# Altium schematic symbol library Electromechanical.SchLib: 51 symbols (part 1 of 2)
Pins are listed as number, name and electrical type; pins without a type are passive.

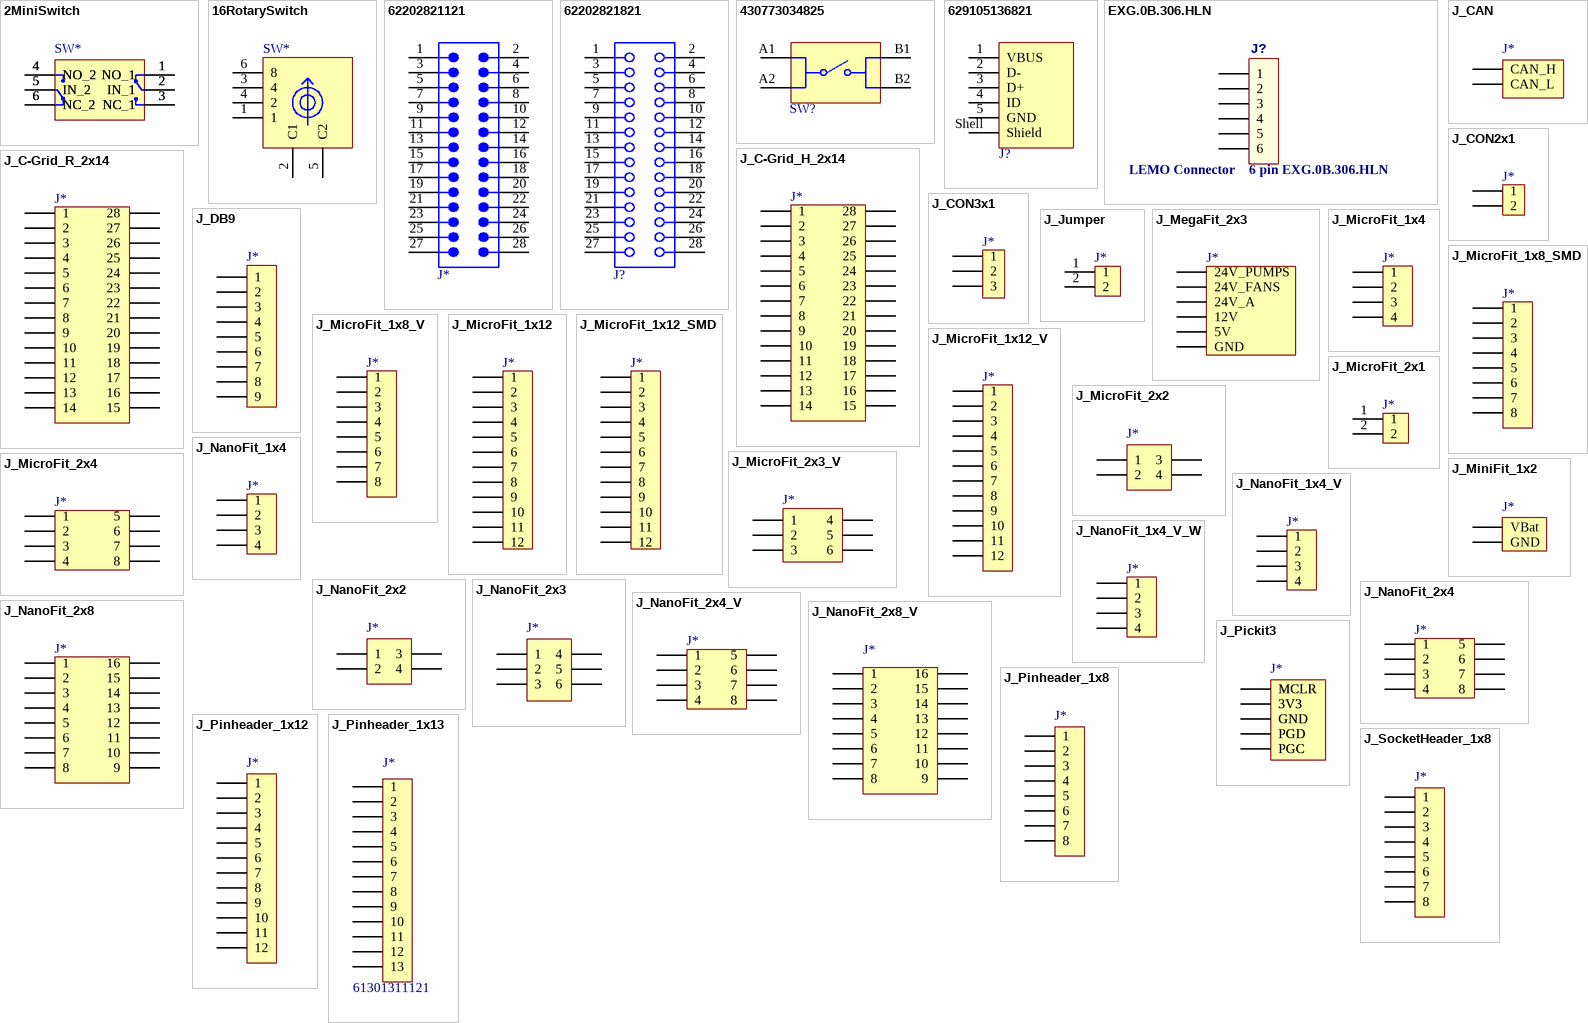
[diagram p0: symbols 2MiniSwitch to J_SocketHeader_1x8]

## 2MiniSwitch
designator SW*, comment 452403012014  (value not drawn)
Switch Slide DPDT 300MA 6V; Manufacturer: Wurth Electronics; Actuator Material: Polymer,Liquid Crystal Polymer; Contact Style: Non-Shorting; Operating Force: 200gf; Switch Travel: 2mm; Switch Function: On-On; Actuator Type: Standard; Actuator Length: 1.2mm; .Creator: GP; Supplier 1: Mouser; Manufacturer Part Number: 452403012014; RoHS: Yes; Stock 1: 5235; Pricing 1: 1=2,51000, 10=2,51000, 50=2,51000, 100=2,10000, 1000=1,69000, 10000=1,50000 (USD); Mount: Surface Mount; Contact Material: Copper Alloy; Contact Plating: Silver; Color: Silver; Min Operating Temperature: -40°C; Max Operating Temperature: 85°C; Packaging: Tape and Reel; Current Rating: 300mA; Voltage Rating (DC): 6V; Termination: SMD/SMT; Throw Configuration: DPDT; RoHS Compliant: Yes; ComponentLink1URL: https://katalog.we-online.de/em/datasheet/452403012014.pdf?src-supplier=Digi-Key; ComponentLink1Description: https://katalog.we-online.de/em/datasheet/452403012014.pdf?src-supplier=Digi-Key; Supplier Part Number 1: 710-452403012014; Category: Switch
footprint 2MINISW
pins: 1 NO_1, 1 NO_1, 1 NO_1, 1 NO_1, 2 IN_1, 2 IN_1, 2 IN_1, 2 IN_1, 3 NC_1, 3 NC_1, 3 NC_1, 3 NC_1, 4 NO_2, 4 NO_2, 4 NO_2, 4 NO_2, 5 IN_2, 5 IN_2, 5 IN_2, 5 IN_2, 6 NC_2, 6 NC_2, 6 NC_2, 6 NC_2

## 16RotarySwitch
designator SW*, comment 428542320816  (value not drawn)
Switch Rotary DIP Hex 100MA 42V; Manufacturer 1: Wurth Electronics; Body Material: Polymer,Liquid Crystal Polymer; Number of Positions: 16; Pitch: 0.1inch; Washable: No; .Creator: DR; Supplier 1: Mouser; Manufacturer Part Number 1: 428542320816; RoHS: Yes; Category: DIP Switches; Stock 1: 5136; Pricing 1: 1=4,78000, 10=4,66000, 50=4,56000, 100=4,24000, 1000=3,92000, 10000=3,79000 (USD); Contact Plating: Gold; Min Operating Temperature: -60°C; Max Operating Temperature: 125°C; Current Rating: 100mA; Voltage Rating (DC): 42V; Termination: Gull Wing; Length: 0.291inch; RoHS Compliant: Yes; ComponentLink1URL: http://katalog.we-online.de/em/datasheet/428542320816.pdf?src-supplier=Digi-Key; ComponentLink1Description: http://katalog.we-online.de/em/datasheet/428542320816.pdf?src-supplier=Digi-Key; ComponentLink2URL: https://katalog.we-online.de/em/datasheet/428542320816.pdf?src-supplier=Digi-Key; ComponentLink2Description: https://katalog.we-online.de/em/datasheet/428542320816.pdf?src-supplier=Digi-Key; Supplier Part Number 1: 710-428542320816
footprint 16RotarySw
pins: 1, 2 C1, 3 4, 4 2, 5 C2, 6 8

## 62202821121
designator J*  (value not drawn)
WR-PHD Pin Header, THT, Vertical, pitch 1.27mm, 2 Row, 28P; Manufacturer: Wurth Elektronik; Contact Resistance: 20mΩ; Rated Current: 1A; Working Voltage: 100V; Withstanding Voltage: 500V; ComponentLink1Description: Website Link; ComponentLink1URL: https://www.we-online.com/redexpert/article/62202821121?ad; ComponentLink2Description: Datasheet Link; ComponentLink2URL: https://www.we-online.com/redexpert/spec/62202821121?ad; Manufacturer Part Number: 62202821121; Category: Board-to-Board Connectors; Match Code: WR-PHD; Mount: Through Hole; Operating Temperature Max: 105°C; Operating Temperature Min: -40°C; Packaging: Box; Gender: Pin Header; Number of Pins: 28; Number of Rows: 2; Orientation: Vertical; Pitch: 1.27mm; Supplier 1: Digi-Key; Supplier Part Number 1: 732-5378-ND
footprint 62202821121
pins: 1, 2, 3, 4, 5, 6, 7, 8, 9, 10, 11, 12, 13, 14, 15, 16, 17, 18, 19, 20, 21, 22, 23, 24, 25, 26, 27, 28

## 62202821821
designator J?  (value not drawn)
WR-PHD Socket Header, THT, Vertical, pitch 1.27mm, 2 Row, 28P; Manufacturer: Wurth Elektronik; Contact Resistance: 20mΩ; Rated Current: 1A; Working Voltage: 250V; Withstanding Voltage: 500V; ComponentLink1Description: Website Link; ComponentLink1URL: https://www.we-online.com/redexpert/article/62202821821?ad; ComponentLink2Description: Datasheet Link; ComponentLink2URL: https://www.we-online.com/redexpert/spec/62202821821?ad; Manufacturer Part Number: 62202821821; Category: Board-to-Board Connectors; Match Code: WR-PHD; Mount: Through Hole; Operating Temperature Max: 105°C; Operating Temperature Min: -40°C; Packaging: Tube; Gender: Socket Header; Number of Pins: 28; Number of Rows: 2; Orientation: Vertical; Pitch: 1.27mm
footprint 62202821821
pins: 1, 2, 3, 4, 5, 6, 7, 8, 9, 10, 11, 12, 13, 14, 15, 16, 17, 18, 19, 20, 21, 22, 23, 24, 25, 26, 27, 28

## 430773034825
designator SW?  (value not drawn)
WS-TASV J-Hook SMT Hermetic Tact Switch, L6 x W6 x H3.4mm, 250g, SPST-NO, 12V, 50mA; Manufacturer: Wurth Elektronik; Washable: Yes; Manufacturer Part Number: 430773034825; Category: Tact Switches; Match Code: WS-TASV; ComponentLink1Description: Website Link; ComponentLink1URL: https://www.we-online.com/redexpert/article/430773034825?ad; ComponentLink2Description: Datasheet Link; ComponentLink2URL: https://www.we-online.com/redexpert/spec/430773034825?ad; Mount: Surface Mount; Operating Temperature Max: 85°C; Operating Temperature Min: -40°C; Packaging: Tape and Reel; Length: 6mm; Width: 6mm; Height: 3.4mm; Circuit: SPST-NO; Contact Material: Stainless Steel; Contact Plating: Silver; Operation Force: 250g; Rated Current: 50mA; Rated Voltage (DC): 12V; Terminal Material: Copper Alloy; Terminal Plating: Silver; Supplier 1: Digi-Key; Supplier Part Number 1: 732-11577-1-ND
footprint WS-TASV_L6W6H3.4_4307x30348xx
pins: A1, A2, B1, B2

## 629105136821
designator J?  (value not drawn)
WR-COM Micro USB 2.0 SMT Type B Horizontal 5 Contacts; Manufacturer: Wurth Elektronik; Match Code: WR-USB; Gender: Receptacle; Interface Type: Type B; Number of Ports: 1; Rated Current: 1A; Working Voltage: 30V (AC); Manufacturer Part Number: 629105136821; Category: Input/Output Connectors; ComponentLink1Description: Website Link; ComponentLink1URL: https://www.we-online.com/redexpert/article/629105136821?ad; ComponentLink2Description: Datasheet Link; ComponentLink2URL: https://www.we-online.com/redexpert/spec/629105136821?ad; Mount: Surface Mount; Operating Temperature Max: 105°C; Operating Temperature Min: -40°C; Packaging: Tape and Reel; Application: Micro USB 2.0; Number of Pins: 5; Orientation: Horizontal; Supplier 1: Rs; Supplier Part Number 1: 8183361
footprint 629105136821
pins: 1 VBUS, 2 D-, 3 D+, 4 ID, 5 GND, Shell Shield

## EXG.0B.306.HLN
designator J?, comment LEMO Connector    6 pin EXG.0B.306.HLN
MPN: EXG.0B.306.HLN; OC_FARNELL: unknown; OC_NEWARK: unknown; Supplier 1: Digi-Key; Supplier Part Number 1: EXG.0B.306.HLN-ND
footprint EXG.0B.306.HLN
pins: 1, 2, 3, 4, 5, 6

## J_C-Grid_H_2x14
designator J*, comment 15800283  (value not drawn)
Conn Shrouded Header HDR 28 POS 2.54mm Solder ST Thru-Hole C-Grid® Tube; Manufacturer: Molex; Manufacturer Part Number: 105314-1116; .Creator: DO; Supplier 1: Newark; RoHS: Yes; Category: Headers and Wire Housings; Stock 1: 366; Pricing 1: 1=3,37000, 10=3,24000, 25=2,88000, 50=2,81000, 100=2,73000, 250=2,44000 (USD); Supplier Part Number 1: 33AC7692; Supplier 2: Newark; Pricing 2: 1728=9,31000 (USD); ComponentLink3URL: https://datasheet.ciiva.com/6787/015445104-sd-6787520.pdf?src-supplier=Digi-Key; ComponentLink3Description: https://datasheet.ciiva.com/6787/015445104-sd-6787520.pdf?src-supplier=Digi-Key; ComponentLink4URL: https://datasheet.ciiva.com/10073/0015445128-pcb-receptacles-10073602.pdf?src-supplier=Avnet; ComponentLink4Description: https://datasheet.ciiva.com/10073/0015445128-pcb-receptacles-10073602.pdf?src-supplier=Avnet; ComponentLink5URL: https://datasheet.ciiva.com/13564/0015445128-pcb-receptacles-226837-13564650.pdf?src-supplier=Mouser; ComponentLink5Description: https://datasheet.ciiva.com/13564/0015445128-pcb-receptacles-226837-13564650.pdf?src-supplier=Mouser; Supplier Part Number 2: 57R8205; Supplier 3: Mouser; Stock 3: 114; Pricing 3: 1=7,85000, 10=6,87000, 50=6,87000, 100=5,56000, 336=5,23000, 1000=5,23000, 1008=4,57000, 2688=4,34000, 5040=4,25000, 10000=4,57000, 10080=4,08000 (USD); ComponentLink6URL: https://datasheet.ciiva.com/5164/0015800283-pcb-headers-157757-5164458.pdf?src-supplier=Mouser; ComponentLink6Description: https://datasheet.ciiva.com/5164/0015800283-pcb-headers-157757-5164458.pdf?src-supplier=Mouser; ComponentLink7URL: https://datasheet.ciiva.com/30201/37130015800283-pcb-headers-30201345.pdf?src-supplier=Onlinecomponents.com; ComponentLink7Description: https://datasheet.ciiva.com/30201/37130015800283-pcb-headers-30201345.pdf?src-supplier=Onlinecomponents.com; Supplier Part Number 3: 538-15-80-0283
footprint J_C-Grid_H_2x14
pins: 1, 2, 3, 4, 5, 6, 7, 8, 9, 10, 11, 12, 13, 14, 15, 16, 17, 18, 19, 20, 21, 22, 23, 24, 25, 26, 27, 28

## J_C-Grid_R_2x14
designator J*, comment 15445128  (value not drawn)
Conn Socket Strip RCP 28 POS 2.54mm Solder ST Thru-Hole C-Grid® Tray; Manufacturer: Molex; Manufacturer Part Number: 105314-1116; .Creator: DO; Supplier 1: Newark; RoHS: Yes; Category: Headers and Wire Housings; Stock 1: 366; Pricing 1: 1=3,37000, 10=3,24000, 25=2,88000, 50=2,81000, 100=2,73000, 250=2,44000 (USD); Supplier Part Number 1: 33AC7692; Supplier 2: Newark; Pricing 2: 1728=9,31000 (USD); ComponentLink3URL: https://datasheet.ciiva.com/6787/015445104-sd-6787520.pdf?src-supplier=Digi-Key; ComponentLink3Description: https://datasheet.ciiva.com/6787/015445104-sd-6787520.pdf?src-supplier=Digi-Key; ComponentLink4URL: https://datasheet.ciiva.com/10073/0015445128-pcb-receptacles-10073602.pdf?src-supplier=Avnet; ComponentLink4Description: https://datasheet.ciiva.com/10073/0015445128-pcb-receptacles-10073602.pdf?src-supplier=Avnet; ComponentLink5URL: https://datasheet.ciiva.com/13564/0015445128-pcb-receptacles-226837-13564650.pdf?src-supplier=Mouser; ComponentLink5Description: https://datasheet.ciiva.com/13564/0015445128-pcb-receptacles-226837-13564650.pdf?src-supplier=Mouser; Supplier Part Number 2: 57R8205
footprint J_C-Grid_R_2x14
pins: 1, 2, 3, 4, 5, 6, 7, 8, 9, 10, 11, 12, 13, 14, 15, 16, 17, 18, 19, 20, 21, 22, 23, 24, 25, 26, 27, 28

## J_CAN
designator J*, comment 430450200  (value not drawn)
Header 2 Row Right-Angle Snap-In Lock 2Pin Tin Plate SMT/Glow Wire Compatible; Manufacturer: Molex; Temperature rating: -40° to +105°C; Category type: PCB header; Product name: Micro-Fit; Maximum current: 8.5 A; Maximum voltage: 600 V; Connections: 2x1; Contact Resistance: 10mR; Number of Contacts: 2; Voltage Rating: 600V; Gender: Male; Current Rating: 5A; Voltage Rating (DC): 250V; Insulation Resistance: 1GR; Max Voltage Rating (DC): 250.25kV; Pitch: 3mm; Glow Wire Compliant: Compliant; Approvals: UL,CSA,TUV; .Creator: GP; Category: Connector; ComponentLink1Description: Datasheet; ComponentLink1URL: https://www.molex.com/pdm_docs/sd/430450200_sd.pdf; ComponentLink2Description: Where buy it; ComponentLink2URL: *; Manufacturer part number: 430450200; Supplier: *; RoHS: Yes; Application: Wire to board; Flammability: 94V-0; Orientation: Right Angle; Mount: Through hole; Supplier 1: Digi-Key; Stock 1: 14652; Pricing 1: 1=1,12000, 10=0,92600, 80=0,77138, 3168=0,55921, 6336=0,53993, 12672=0,50136 (USD); Case/Package: SMC; Contact Plating: Tin; Color: Black; Contact Material: Brass,Tin; Housing Material: Thermoplastic; Housing Color: Black; Material: Thermoplastic; Min Operating Temperature: -40°C; Max Operating Temperature: 105°C; Termination: Through Hole; Number of Rows: 2; Packaging: Tray; Number of Positions: 2; Package Quantity: 3168; Number of Circuits: 2; Contact Gender: Male; Diameter: 3mm; Row Spacing: 3mm; Radiation Hardening: No; Flammability Rating: UL94 V-0; Lead Free: Lead Free; REACH SVHC: Unknown; Halogen Free: Low Halogen; ComponentLink3URL: https://datasheet.ciiva.com/14155/04402310-14155203.pdf?src-supplier=Distrelec; ComponentLink3Description: https://datasheet.ciiva.com/14155/04402310-14155203.pdf?src-supplier=Distrelec; ComponentLink4URL: https://datasheet.ciiva.com/5150/0430450200-pcb-headers-145770-5150407.pdf?src-supplier=Mouser; ComponentLink4Description: https://datasheet.ciiva.com/5150/0430450200-pcb-headers-145770-5150407.pdf?src-supplier=Mouser; ComponentLink5URL: https://datasheet.ciiva.com/19454/883270-19454006.pdf?src-supplier=Jameco; ComponentLink5Description: https://datasheet.ciiva.com/19454/883270-19454006.pdf?src-supplier=Jameco; ComponentLink6URL: https://datasheet.ciiva.com/11747/0900766b80027348-11747001.pdf?src-supplier=RSComponents; ComponentLink6Description: https://datasheet.ciiva.com/11747/0900766b80027348-11747001.pdf?src-supplier=RSComponents; ComponentLink7URL: https://datasheet.ciiva.com/36854/124280430450200-pcb-headers-36854331.pdf?src-supplier=Onlinecomponents.com; ComponentLink7Description: https://datasheet.ciiva.com/36854/124280430450200-pcb-headers-36854331.pdf?src-supplier=Onlinecomponents.com; ComponentLink8URL: https://datasheet.ciiva.com/16656/0430450200-pcb-headers-16656330.pdf?src-supplier=Avnet+Europe; ComponentLink8Description: https://datasheet.ciiva.com/16656/0430450200-pcb-headers-16656330.pdf?src-supplier=Avnet+Europe; ComponentLink9URL: https://datasheet.ciiva.com/10090/0430450200-pcb-headers-10090299.pdf?src-supplier=Avnet; ComponentLink9Description: https://datasheet.ciiva.com/10090/0430450200-pcb-headers-10090299.pdf?src-supplier=Avnet; ComponentLink10URL: https://datasheet.ciiva.com/1443/1859921-1443437.pdf?src-supplier=Element14; ComponentLink10Description: https://datasheet.ciiva.com/1443/1859921-1443437.pdf?src-supplier=Element14; Supplier Part Number 1: WM1813-ND
footprint J_MicroFit_1x2
pins: 1 CAN_H, 2 CAN_L

## J_CON2x1
designator J*, comment 282836-2  (value not drawn)
Connector, Terminal Block; Wire Receptacle; 2 Pos.; 16-30 AWG; 0.197 in. CL; Sid; Manufacturer 1: TE Connectivity; Supplier 1: Arrow Electronics; Manufacturer Part Number 1: 282836-2; RoHS: Yes; Category: Terminal Blocks; Stock 1: 8391; Pricing 1: 1=0,41710, 10=0,36230, 100=0,30770, 500=0,29220, 1000=0,26130, 2500=0,23640, 5000=0,21140, 10000=0,20690, 25000=0,20320 (USD); ComponentLink1URL: https://datasheet.ciiva.com/15169/getdatasheetpartid-155855-15169553.pdf?src-supplier=Verical; ComponentLink1Description: https://datasheet.ciiva.com/15169/getdatasheetpartid-155855-15169553.pdf?src-supplier=Verical; ComponentLink2URL: https://datasheet.ciiva.com/16393/282836-2-16393382.pdf?src-supplier=Future+Electronics; ComponentLink2Description: https://datasheet.ciiva.com/16393/282836-2-16393382.pdf?src-supplier=Future+Electronics; ComponentLink3URL: https://datasheet.ciiva.com/11757/0900766b8002dc8a-11757385.pdf?src-supplier=RSComponents; ComponentLink3Description: https://datasheet.ciiva.com/11757/0900766b8002dc8a-11757385.pdf?src-supplier=RSComponents; ComponentLink4URL: https://datasheet.ciiva.com/7628/1731782-7628513.pdf?src-supplier=Element14; ComponentLink4Description: https://datasheet.ciiva.com/7628/1731782-7628513.pdf?src-supplier=Element14; ComponentLink5URL: https://datasheet.ciiva.com/823/eng-cd-282836-h10-823437.pdf?src-supplier=Digi-Key; ComponentLink5Description: https://datasheet.ciiva.com/823/eng-cd-282836-h10-823437.pdf?src-supplier=Digi-Key; ComponentLink6URL: https://datasheet.ciiva.com/3141/eng-cs-1308389-eurostyle-terminal-blocks-0607-3141118.pdf?src-supplier=Avnet; ComponentLink6Description: https://datasheet.ciiva.com/3141/eng-cs-1308389-eurostyle-terminal-blocks-0607-3141118.pdf?src-supplier=Avnet; ComponentLink7URL: https://datasheet.ciiva.com/30261/eng-cs-1308389-eurostyle-terminal-blocks-0607-30261813.pdf?src-supplier=Onlinecomponents.com; ComponentLink7Description: https://datasheet.ciiva.com/30261/eng-cs-1308389-eurostyle-terminal-blocks-0607-30261813.pdf?src-supplier=Onlinecomponents.com; Supplier Part Number 1: 282836-2
footprint J_screw_1x2
pins: 1, 2

## J_CON3x1
designator J*, comment 282836-3  (value not drawn)
Connector, Terminal Block; Wire Receptacle; 3 Pos.; 16-30 AWG; 0.197 in. CL; Sid; Plating: Brass; Number of Levels: 1; Number of Positions Per Level: 3; Current: 13.5A; Voltage: 300V; Closed End: No (Without); Interlock: Yes (With); Voltage Rating (AC): 250V; Pitch: 5mm; Wire Gauge (Max): 30AWG; Wire Gauge (Min): 16AWG; Tail Length: 3.5mm; Thread Size: M3; Approvals: UL; .Creator: GP; Category: Connector; ComponentLink1Description: Datasheet; ComponentLink1URL: https://html.alldatasheet.com/html-pdf/349315/MACOM/2-282836-3/153/1/2-282836-3.html; ComponentLink2Description: Where buy it; ComponentLink2URL: *; Mount: Through hole; Supplier 1: RSComponents; Stock 1: 1; Pricing 1: 5=0,97600, 125=0,86800, 375=0,76800, 1000=0,67600, 2000=0,62200 (USD); Housing Color: Green; Contact Plating: Tin; Contact Material: Brass; Color: Green; Housing Material: Polyamide; Insulation Material: Nylon; Number of Rows: 1; Termination: Screw; Package Quantity: 200; Number of Positions: 3; Orientation: Straight; Series: Buchanan; Connector Type: Receptacle; Number of Contacts: 3; Screw Flange: No (Without); Screwless Terminal Block: No (Without); Side Stackable: Yes (With); Current Rating: 13.5A; Max Current Rating: 13.5A; Voltage Rating: 300V; Number of Circuits: 3; Max Supply Voltage (AC): 300V; Number of Poles: 3; Max Voltage Rating (AC): 300V; RMS Current (Irms): 13.5A; Working Voltage: 250V; Length: 15mm; Width: 10mm; Depth: 8.2mm; Wire/Cable Gauge: 16AWG; Radiation Hardening: No; Flammability Rating: UL94 V-0; RoHS Compliant: Yes; ELV: Compliant; REACH SVHC: Unknown; Lead Free: Lead Free; ComponentLink3URL: https://datasheet.ciiva.com/15169/getdatasheetpartid-155856-15169554.pdf?src-supplier=Verical; ComponentLink3Description: https://datasheet.ciiva.com/15169/getdatasheetpartid-155856-15169554.pdf?src-supplier=Verical; ComponentLink4URL: https://datasheet.ciiva.com/16305/eng-cs-1308389-eurostyle-terminal-blocks-0607-16305242.pdf?src-supplier=Future+Electronics; ComponentLink4Description: https://datasheet.ciiva.com/16305/eng-cs-1308389-eurostyle-terminal-blocks-0607-16305242.pdf?src-supplier=Future+Electronics; ComponentLink5URL: https://datasheet.ciiva.com/19460/750661-19460522.pdf?src-supplier=Jameco; ComponentLink5Description: https://datasheet.ciiva.com/19460/750661-19460522.pdf?src-supplier=Jameco; ComponentLink6URL: https://datasheet.ciiva.com/11757/0900766b8002dc8a-11757406.pdf?src-supplier=RSComponents; ComponentLink6Description: https://datasheet.ciiva.com/11757/0900766b8002dc8a-11757406.pdf?src-supplier=RSComponents; ComponentLink7URL: https://datasheet.ciiva.com/823/eng-cd-282836-h10-823445.pdf?src-supplier=Digi-Key; ComponentLink7Description: https://datasheet.ciiva.com/823/eng-cd-282836-h10-823445.pdf?src-supplier=Digi-Key; ComponentLink8URL: https://datasheet.ciiva.com/30106/eng-cs-1308389-eurostyle-terminal-blocks-0607-30106198.pdf?src-supplier=Onlinecomponents.com; ComponentLink8Description: https://datasheet.ciiva.com/30106/eng-cs-1308389-eurostyle-terminal-blocks-0607-30106198.pdf?src-supplier=Onlinecomponents.com; ComponentLink9URL: https://datasheet.ciiva.com/14606/70086276-14606907.pdf?src-supplier=Allied+Electronics; ComponentLink9Description: https://datasheet.ciiva.com/14606/70086276-14606907.pdf?src-supplier=Allied+Electronics; ComponentLink10URL: https://datasheet.ciiva.com/16649/eng-cs-1308389-eurostyle-terminal-blocks-0607-16649389.pdf?src-supplier=Avnet+Europe; ComponentLink10Description: https://datasheet.ciiva.com/16649/eng-cs-1308389-eurostyle-terminal-blocks-0607-16649389.pdf?src-supplier=Avnet+Europe; ComponentLink11URL: https://datasheet.ciiva.com/3141/eng-cs-1308389-eurostyle-terminal-blocks-0607-3141119.pdf?src-supplier=Avnet; ComponentLink11Description: https://datasheet.ciiva.com/3141/eng-cs-1308389-eurostyle-terminal-blocks-0607-3141119.pdf?src-supplier=Avnet; Supplier Part Number 1: 3617673
footprint J_screw_1x3
pins: 1, 2, 3

## J_DB9
designator J*  (value not drawn)
AMPLIMITE HD22 Board Mount Connectors: AMPL REC, HD20, R/A, 9P, S/L, .318 ; Region : VERICAL; Manufacturer 1: TE Connectivity AMP; Manufacturer Part Number 1: 2311765-1; .Creator: DR; Supplier 1: Arrow Electronics; RoHS: Yes; Category: D-Sub Connectors; Stock 1: 9940; Pricing 1: 1=2,08170, 10=1,72420, 100=1,45980, 500=1,18730, 1100=1,06580, 2200=1,04720, 5500=1,04110, 11000=0,95140 (USD); ComponentLink1URL: https://www.te.com/commerce/DocumentDelivery/DDEController?Action=srchrtrv&DocNm=2311765&DocType=Customer+Drawing&DocLang=English&src-supplier=Digi-Key; ComponentLink1Description: https://www.te.com/commerce/DocumentDelivery/DDEController?Action=srchrtrv&DocNm=2311765&DocType=Customer+Drawing&DocLang=English&src-supplier=Digi-Key; Supplier Part Number 1: 2311765-1
footprint J_DB9
pins: 1, 2, 3, 4, 5, 6, 7, 8, 9

## J_Jumper
designator J*, comment 61300211121  (value not drawn)
CONN HEADER 2 POS 2.54; Manufacturer: Molex; Temperature rating: -40° to +105°C; Category type: PCB-PCB; Product name: Pin Header; Maximum current: 3 A; Maximum voltage: 250 V AC; Connections: 1x2; Current Rating: 3A; Voltage Rating: 250V; Number of Positions: 2; Gender: Male; Connector Type: Male Pin; Pitch: 0.1inch; .Creator: GP; Category: Connector; ComponentLink1Description: Datasheet; ComponentLink1URL: https://www.we-online.com/catalog/datasheet/61300211121.pdf; ComponentLink2Description: Where buy it; ComponentLink2URL: https://www.we-online.com/catalog/en/PHD_2_54_THT_PIN_HEADER_6130XX11121?sq=61300211121&sp=https%3A%2F%2Fwww.we-online.com%2Fweb%2Fen%2Fwuerth_elektronik%2Fsearchpage.php%3Fsearch%3D61300211121#61300211121; Manufacturer part number: 61300211121; Supplier: Würth Elektronik; RoHS: *; Application: Shortcircuit; Flammability: 94V-0; Orientation: Vertical; Mount: Through hole; Supplier 1: RSComponents; Stock 1: 1855; Pricing 1: 5=0,14100, 50=0,09700, 100=0,07800, 200=0,07300, 500=0,06800 (USD); Contact Plating: Gold; Housing Material: PBT; Contact Material: Copper Alloy,Copper; Color: Black; Min Operating Temperature: -40°C; Max Operating Temperature: 125°C; Number of Rows: 1; Contact Gender: Male; Packaging: Bulk; Termination: Through Hole; Number of Contacts: 2; Contact Mating Length: 0.236inch; REACH SVHC: Unknown; Lead Free: Lead Free; ComponentLink3URL: https://datasheet.ciiva.com/13619/6130xx11121-48870-13619345.pdf?src-supplier=Mouser; ComponentLink3Description: https://datasheet.ciiva.com/13619/6130xx11121-48870-13619345.pdf?src-supplier=Mouser; Supplier Part Number 1: 8281581
footprint J_Pinheader_1x2
pins: 1, 2

## J_MegaFit_2x3
designator J*, comment 768290006  (value not drawn)
Mega-Fit Vertical Header Through Hole 5.70mm Pitch Dual Row 6 Circuits 1.52; Manufacturer: Molex; Manufacturer Part Number: 76829-0006; .Creator: GP; Supplier 1: Newark; RoHS: Yes; Category: Headers and Wire Housings; Stock 1: 384; Pricing 1: 1=2,63000, 10=2,33000, 25=2,24000, 50=2,15000, 100=2,06000, 250=1,86000 (USD); ComponentLink1URL: https://www.molex.com/pdm_docs/sd/768290006_sd.pdf; ComponentLink1Description: Datasheet; ComponentLink2URL: http://www.farnell.com/datasheets/2216552.pdf?src-supplier=Farnell; ComponentLink2Description: http://www.farnell.com/datasheets/2216552.pdf?src-supplier=Farnell; ComponentLink3URL: https://www.molex.com/pdm_docs/sd/768290006_sd.pdf?src-supplier=Digi-Key; ComponentLink3Description: https://www.molex.com/pdm_docs/sd/768290006_sd.pdf?src-supplier=Digi-Key; ComponentLink4URL: http://www.farnell.com/datasheets/1968956.pdf?src-supplier=Element14; ComponentLink4Description: http://www.farnell.com/datasheets/1968956.pdf?src-supplier=Element14; ComponentLink5URL: http://www.farnell.com/datasheets/2001779.pdf?src-supplier=Element14; ComponentLink5Description: http://www.farnell.com/datasheets/2001779.pdf?src-supplier=Element14; ComponentLink6URL: http://www.farnell.com/datasheets/2216552.pdf?src-supplier=Newark; ComponentLink6Description: http://www.farnell.com/datasheets/2216552.pdf?src-supplier=Newark; Supplier Part Number 1: 78AC2215
footprint J_SupplyDeriv_Out
pins: 1 5V, 2 GND, 3 24V_A, 4 12V, 5 24V_FANS, 6 24V_PUMPS

## J_MicroFit_1x4
designator J*, comment 436500400  (value not drawn)
Connector Wire to Board Header 4 Position 3mm Solder Right Angle Thru-Hole Tray; Manufacturer 1: Molex; Manufacturer Part Number 1: 43650-0400; Current Rating: 5A; Voltage Rating: 600V; Contact Resistance: 10mR; Connector Type: Plug; Number of Positions: 4; Gender: Male; Voltage Rating (DC): 250V; Glow Wire Compliant: Compliant; Supplier 1: Farnell; RoHS: Yes; Category: Headers and Wire Housings; Stock 1: 4623; Pricing 1: 1=1,24000, 10=1,22000, 50=1,19000, 100=1,17000, 500=1,14000, 1000=1,12000 (EUR); Mount: Through Hole,Cable; Contact Material: Brass,Copper Alloy; Contact Plating: Tin; Color: Black; Housing Color: Black; Housing Material: Thermoplastic; Min Operating Temperature: -40°C; Max Operating Temperature: 105°C; Termination: Solder; Orientation: Right Angle; Number of Rows: 1; Packaging: Tray; Package Quantity: 2380; Number of Contacts: 4; Max Voltage Rating (AC): 600V; Number of Circuits: 4; Series: 43650; Length: 14.86mm; Height: 4.5mm; Pitch: 3mm; Depth: 3.6mm; Radiation Hardening: No; Halogen Free: Low Halogen; Lead Free: Contains Lead; Flammability Rating: UL94 V-0; RoHS Compliant: Yes; ComponentLink1URL: https://datasheet.ciiva.com/19462/884184-19462234.pdf?src-supplier=Jameco; ComponentLink1Description: https://datasheet.ciiva.com/19462/884184-19462234.pdf?src-supplier=Jameco; ComponentLink2URL: https://datasheet.ciiva.com/5151/0436500400-pcb-headers-148663-5151881.pdf?src-supplier=Mouser; ComponentLink2Description: https://datasheet.ciiva.com/5151/0436500400-pcb-headers-148663-5151881.pdf?src-supplier=Mouser; ComponentLink3URL: https://datasheet.ciiva.com/16085/0436500400-pcb-headers-16085752.pdf?src-supplier=Onlinecomponents.com; ComponentLink3Description: https://datasheet.ciiva.com/16085/0436500400-pcb-headers-16085752.pdf?src-supplier=Onlinecomponents.com; ComponentLink4URL: https://datasheet.ciiva.com/11748/0900766b80d6135b-11748178.pdf?src-supplier=RSComponents; ComponentLink4Description: https://datasheet.ciiva.com/11748/0900766b80d6135b-11748178.pdf?src-supplier=RSComponents; ComponentLink5URL: https://datasheet.ciiva.com/30221/142510436500400-pcb-headers-30221164.pdf?src-supplier=Onlinecomponents.com; ComponentLink5Description: https://datasheet.ciiva.com/30221/142510436500400-pcb-headers-30221164.pdf?src-supplier=Onlinecomponents.com; ComponentLink6URL: https://datasheet.ciiva.com/17080/70266896-17080471.pdf?src-supplier=Allied+Electronics; ComponentLink6Description: https://datasheet.ciiva.com/17080/70266896-17080471.pdf?src-supplier=Allied+Electronics; ComponentLink7URL: https://datasheet.ciiva.com/7094/1946229-7094763.pdf?src-supplier=Newark; ComponentLink7Description: https://datasheet.ciiva.com/7094/1946229-7094763.pdf?src-supplier=Newark; ComponentLink8URL: https://datasheet.ciiva.com/9449/0436500400-pcb-headers-9449446.pdf?src-supplier=Avnet; ComponentLink8Description: https://datasheet.ciiva.com/9449/0436500400-pcb-headers-9449446.pdf?src-supplier=Avnet; Supplier Part Number 1: 1012232
footprint J_MicroFit_1x4
pins: 1, 2, 3, 4

## J_MicroFit_1x8_SMD
designator J*
Conn Wire to Board HDR 8 POS 3mm Solder RA SMD Embossed T/R; Manufacturer: Molex; Manufacturer Part Number: 43650-0809; Supplier 1: Mouser; RoHS: Yes; Category: Headers and Wire Housings; Stock 1: 292; Pricing 1: 1=2,68000, 10=2,36000, 50=2,36000, 100=1,88000, 1000=1,56000, 10000=1,39000 (USD); ComponentLink1URL: https://datasheet.ciiva.com/5148/0436500809-pcb-headers-148727-5148060.pdf?src-supplier=Mouser; ComponentLink1Description: https://datasheet.ciiva.com/5148/0436500809-pcb-headers-148727-5148060.pdf?src-supplier=Mouser; ComponentLink2URL: https://datasheet.ciiva.com/30205/0436500809-pcb-headers-30205898.pdf?src-supplier=Onlinecomponents.com; ComponentLink2Description: https://datasheet.ciiva.com/30205/0436500809-pcb-headers-30205898.pdf?src-supplier=Onlinecomponents.com; ComponentLink3URL: https://datasheet.ciiva.com/16085/0436500809-pcb-headers-16085981.pdf?src-supplier=Onlinecomponents.com; ComponentLink3Description: https://datasheet.ciiva.com/16085/0436500809-pcb-headers-16085981.pdf?src-supplier=Onlinecomponents.com; Supplier Part Number 1: 538-43650-0809
footprint J_MicroFit_1x8_SMD
pins: 1, 2, 3, 4, 5, 6, 7, 8

## J_MicroFit_1x8_V
designator J*
Conn Wire to Board HDR 8 POS 3mm Solder ST Top Entry Thru-Hole Micro-Fit 3.0™ Tray; Manufacturer 1: Molex; Manufacturer Part Number 1: 43650-1200; .Creator: DR; Supplier 1: Newark; RoHS: Yes; Category: Headers and Wire Housings; Stock 1: 13; Pricing 1: 1=3,36000, 10=2,96000, 25=2,76000, 50=2,56000, 100=2,36000, 250=2,08000 (USD); Supplier Part Number 1: 01AH1239; Supplier 2: Arrow Electronics; Manufacturer 2: Molex; Manufacturer Part Number 2: 43650-0815; Stock 2: 2244; Pricing 2: 1=1,89510, 10=1,68890, 80=1,45980, 1122=1,20850, 5610=1,08880 (USD); Supplier Part Number 2: 43650-0815; ComponentLink1URL: https://datasheet.ciiva.com/16085/281240436500815-pcb-headers-16085998.pdf?src-supplier=Onlinecomponents.com; ComponentLink1Description: https://datasheet.ciiva.com/16085/281240436500815-pcb-headers-16085998.pdf?src-supplier=Onlinecomponents.com; ComponentLink2URL: https://datasheet.ciiva.com/5151/0436500815-pcb-headers-148729-5151340.pdf?src-supplier=Mouser; ComponentLink2Description: https://datasheet.ciiva.com/5151/0436500815-pcb-headers-148729-5151340.pdf?src-supplier=Mouser; ComponentLink3URL: https://datasheet.ciiva.com/26916/getdatasheetpartid-78997-26916336.pdf?src-supplier=Verical; ComponentLink3Description: https://datasheet.ciiva.com/26916/getdatasheetpartid-78997-26916336.pdf?src-supplier=Verical; ComponentLink4URL: https://datasheet.ciiva.com/30117/57400436500815-pcb-headers-30117736.pdf?src-supplier=Onlinecomponents.com; ComponentLink4Description: https://datasheet.ciiva.com/30117/57400436500815-pcb-headers-30117736.pdf?src-supplier=Onlinecomponents.com
footprint J_MicroFit_1x8_V
pins: 1, 2, 3, 4, 5, 6, 7, 8

## J_MicroFit_1x12
designator J*, comment 436501200  (value not drawn)
Conn Power HDR 12 POS 3mm Solder RA Thru-Hole 12 Terminal 1 Port Micro-Fit 3.0™ Frame; Manufacturer 1: Molex; Manufacturer Part Number 1: 43650-1200; .Creator: DR; Supplier 1: Newark; RoHS: Yes; Category: Headers and Wire Housings; Stock 1: 13; Pricing 1: 1=3,36000, 10=2,96000, 25=2,76000, 50=2,56000, 100=2,36000, 250=2,08000 (USD); ComponentLink1URL: https://datasheet.ciiva.com/713/436500501-sd-713883.pdf?src-supplier=Digi-Key; ComponentLink1Description: https://datasheet.ciiva.com/713/436500501-sd-713883.pdf?src-supplier=Digi-Key; ComponentLink2URL: https://datasheet.ciiva.com/30240/0436501200-pcb-headers-30240499.pdf?src-supplier=Onlinecomponents.com; ComponentLink2Description: https://datasheet.ciiva.com/30240/0436501200-pcb-headers-30240499.pdf?src-supplier=Onlinecomponents.com; ComponentLink3URL: https://datasheet.ciiva.com/5150/0436501200-pcb-headers-168537-5150117.pdf?src-supplier=Mouser; ComponentLink3Description: https://datasheet.ciiva.com/5150/0436501200-pcb-headers-168537-5150117.pdf?src-supplier=Mouser; ComponentLink4URL: https://datasheet.ciiva.com/16086/1031430436501200-pcb-headers-16086097.pdf?src-supplier=Onlinecomponents.com; ComponentLink4Description: https://datasheet.ciiva.com/16086/1031430436501200-pcb-headers-16086097.pdf?src-supplier=Onlinecomponents.com; ComponentLink5URL: https://datasheet.ciiva.com/14155/04402066-14155230.pdf?src-supplier=Distrelec; ComponentLink5Description: https://datasheet.ciiva.com/14155/04402066-14155230.pdf?src-supplier=Distrelec; Supplier Part Number 1: 01AH1239
footprint J_MicroFit_1x12
pins: 1, 2, 3, 4, 5, 6, 7, 8, 9, 10, 11, 12

## J_MicroFit_1x12_SMD
designator J*, comment 436501209  (value not drawn)
Conn Power HDR 12 POS 3mm Solder RA SMD 12 Terminal 1 Port Embossed T/R; Manufacturer 1: Molex; Manufacturer Part Number 1: 43650-1209; Supplier 1: Newark; RoHS: Yes; Category: Headers and Wire Housings; Stock 1: 960; Pricing 1: 1=4,73000, 10=4,17000, 25=3,80000, 50=3,44000, 100=3,07000, 250=2,81000, 320=2,81000 (USD); ComponentLink1URL: https://datasheet.ciiva.com/712/436501209-sd-712211.pdf?src-supplier=Digi-Key; ComponentLink1Description: https://datasheet.ciiva.com/712/436501209-sd-712211.pdf?src-supplier=Digi-Key; ComponentLink2URL: https://datasheet.ciiva.com/5153/0436501209-pcb-headers-168539-5153146.pdf?src-supplier=Mouser; ComponentLink2Description: https://datasheet.ciiva.com/5153/0436501209-pcb-headers-168539-5153146.pdf?src-supplier=Mouser; ComponentLink3URL: https://datasheet.ciiva.com/30219/0436501209-pcb-headers-30219296.pdf?src-supplier=Onlinecomponents.com; ComponentLink3Description: https://datasheet.ciiva.com/30219/0436501209-pcb-headers-30219296.pdf?src-supplier=Onlinecomponents.com; ComponentLink4URL: https://datasheet.ciiva.com/9449/0436501209-pcb-headers-9449475.pdf?src-supplier=Avnet; ComponentLink4Description: https://datasheet.ciiva.com/9449/0436501209-pcb-headers-9449475.pdf?src-supplier=Avnet; ComponentLink5URL: https://datasheet.ciiva.com/16086/0436501209-pcb-headers-16086107.pdf?src-supplier=Onlinecomponents.com; ComponentLink5Description: https://datasheet.ciiva.com/16086/0436501209-pcb-headers-16086107.pdf?src-supplier=Onlinecomponents.com; Supplier Part Number 1: 73K6361
footprint J_MicroFit_1x12_SMD
pins: 1, 2, 3, 4, 5, 6, 7, 8, 9, 10, 11, 12

## J_MicroFit_1x12_V
designator J*
Conn Power HDR 12 POS 3mm Solder ST Thru-Hole 12 Terminal 1 Port Micro-Fit 3.0™ Tray; Manufacturer 1: Molex; Manufacturer Part Number 1: 43650-1215; Supplier 1: Avnet; RoHS: Yes; Category: Headers and Wire Housings; Stock 1: 1632; Pricing 1: 816=1,58731, 1632=1,28652, 3264=1,08716, 4896=1,05565, 6528=0,89063 (USD); ComponentLink1URL: https://datasheet.ciiva.com/712/436500316-sd-712050.pdf?src-supplier=Digi-Key; ComponentLink1Description: https://datasheet.ciiva.com/712/436500316-sd-712050.pdf?src-supplier=Digi-Key; ComponentLink2URL: https://datasheet.ciiva.com/5154/0436501215-pcb-headers-148827-5154953.pdf?src-supplier=Mouser; ComponentLink2Description: https://datasheet.ciiva.com/5154/0436501215-pcb-headers-148827-5154953.pdf?src-supplier=Mouser; ComponentLink3URL: https://datasheet.ciiva.com/16088/0436501215-pcb-headers-16088773.pdf?src-supplier=Onlinecomponents.com; ComponentLink3Description: https://datasheet.ciiva.com/16088/0436501215-pcb-headers-16088773.pdf?src-supplier=Onlinecomponents.com; ComponentLink4URL: https://datasheet.ciiva.com/30150/206240436501215-pcb-headers-30150375.pdf?src-supplier=Onlinecomponents.com; ComponentLink4Description: https://datasheet.ciiva.com/30150/206240436501215-pcb-headers-30150375.pdf?src-supplier=Onlinecomponents.com; Supplier Part Number 1: 0436501215
footprint J_MicroFit_1x12_V (Footprint not found)
pins: 1, 2, 3, 4, 5, 6, 7, 8, 9, 10, 11, 12

## J_MicroFit_2x1
designator J*, comment 436500215  (value not drawn)
Header 1 Row Vertical Polarizing Peg 2 Pin SMT/Glow Wire Compatible Tin Plate; Manufacturer 1: Molex; Manufacturer Part Number 1: 43650-0215; Supplier 1: Arrow Electronics; RoHS: Yes; Category: Headers and Wire Housings; Stock 1: 11086; Pricing 1: 1=0,87800, 10=0,74400, 80=0,63070, 3264=0,47000, 6528=0,45100, 13056=0,41760 (USD); ComponentLink1URL: https://datasheet.ciiva.com/19462/884109-19462034.pdf?src-supplier=Jameco; ComponentLink1Description: https://datasheet.ciiva.com/19462/884109-19462034.pdf?src-supplier=Jameco; ComponentLink2URL: https://datasheet.ciiva.com/5157/0436500215-pcb-headers-148687-5157608.pdf?src-supplier=Mouser; ComponentLink2Description: https://datasheet.ciiva.com/5157/0436500215-pcb-headers-148687-5157608.pdf?src-supplier=Mouser; ComponentLink3URL: https://datasheet.ciiva.com/16085/0436500215-pcb-headers-16085668.pdf?src-supplier=Onlinecomponents.com; ComponentLink3Description: https://datasheet.ciiva.com/16085/0436500215-pcb-headers-16085668.pdf?src-supplier=Onlinecomponents.com; ComponentLink4URL: https://datasheet.ciiva.com/11748/0900766b80307ce2-11748388.pdf?src-supplier=RSComponents; ComponentLink4Description: https://datasheet.ciiva.com/11748/0900766b80307ce2-11748388.pdf?src-supplier=RSComponents; ComponentLink5URL: https://datasheet.ciiva.com/9432/0436500215-pcb-headers-9432850.pdf?src-supplier=Avnet; ComponentLink5Description: https://datasheet.ciiva.com/9432/0436500215-pcb-headers-9432850.pdf?src-supplier=Avnet; ComponentLink6URL: https://datasheet.ciiva.com/7920/1889390-7920892.pdf?src-supplier=Element14; ComponentLink6Description: https://datasheet.ciiva.com/7920/1889390-7920892.pdf?src-supplier=Element14; Supplier Part Number 1: 43650-0215
footprint J_MicroFit_2x1
pins: 1, 2

## J_MicroFit_2x2
designator J*, comment 430450412  (value not drawn)
Header 2 Row Vertical Polarizing Peg 4 Pin Tin Plate SMT/Glow Wire Kinked Leads; Manufacturer 1: Molex; Manufacturer Part Number 1: 43045-0412; .Creator: DR; Supplier 1: Arrow Electronics; RoHS: Yes; Category: Headers and Wire Housings; Stock 1: 54122; Pricing 1: 1=1,24720, 10=1,02970, 80=0,85390, 2232=0,63810, 6696=0,59030, 11160=0,55550 (USD); ComponentLink1URL: https://datasheet.ciiva.com/19462/883368-19462265.pdf?src-supplier=Jameco; ComponentLink1Description: https://datasheet.ciiva.com/19462/883368-19462265.pdf?src-supplier=Jameco; ComponentLink2URL: https://datasheet.ciiva.com/5158/0430450412-pcb-headers-142874-5158187.pdf?src-supplier=Mouser; ComponentLink2Description: https://datasheet.ciiva.com/5158/0430450412-pcb-headers-142874-5158187.pdf?src-supplier=Mouser; ComponentLink3URL: https://datasheet.ciiva.com/30095/176640430450412-pcb-headers-30095929.pdf?src-supplier=Onlinecomponents.com; ComponentLink3Description: https://datasheet.ciiva.com/30095/176640430450412-pcb-headers-30095929.pdf?src-supplier=Onlinecomponents.com; ComponentLink4URL: https://datasheet.ciiva.com/11747/0900766b800bd7d2-11747137.pdf?src-supplier=RSComponents; ComponentLink4Description: https://datasheet.ciiva.com/11747/0900766b800bd7d2-11747137.pdf?src-supplier=RSComponents; ComponentLink5URL: https://datasheet.ciiva.com/26916/getdatasheetpartid-253008-26916516.pdf?src-supplier=Verical; ComponentLink5Description: https://datasheet.ciiva.com/26916/getdatasheetpartid-253008-26916516.pdf?src-supplier=Verical; ComponentLink6URL: https://datasheet.ciiva.com/22637/1928349-22637530.pdf?src-supplier=Element14; ComponentLink6Description: https://datasheet.ciiva.com/22637/1928349-22637530.pdf?src-supplier=Element14; ComponentLink7URL: https://datasheet.ciiva.com/9468/0430450412-pcb-headers-9468485.pdf?src-supplier=Avnet; ComponentLink7Description: https://datasheet.ciiva.com/9468/0430450412-pcb-headers-9468485.pdf?src-supplier=Avnet; Supplier Part Number 1: 43045-0412
footprint J_MicroFit_2x2_v
pins: 1, 2, 3, 4

## J_MicroFit_2x3_V
designator J*, comment 43045-0612  (value not drawn)
Micro fit Header, 2 Row, Vertical, Polarizing Peg, 6 Pin, Tin Plate, SMT/Glow Wire, Kinked Leads; Manufacturer: Molex; .Creator: DO; ComponentLink8Description: Where buy it; ComponentLink8URL: https://www.molex.com/molex/products/part-detail/pcb_headers/0430450612; Supplier 1: RSComponents; Manufacturer Part Number: 43045-0612; RoHS: Yes; Category: Headers and Wire Housings; Stock 1: 2635; Pricing 1: 5=1,45500, 100=1,26700, 375=1,08900, 1500=0,90900, 3000=0,72900 (USD); ComponentLink1URL: https://www.molex.com/pdm_docs/sd/430450612_sd.pdf; ComponentLink1Description: Datasheet; ComponentLink2URL: https://datasheet.ciiva.com/11748/0900766b800bd7d2-11748707.pdf?src-supplier=RSComponents; ComponentLink2Description: https://datasheet.ciiva.com/11748/0900766b800bd7d2-11748707.pdf?src-supplier=RSComponents; ComponentLink3URL: https://datasheet.ciiva.com/19462/883464-19462371.pdf?src-supplier=Jameco; ComponentLink3Description: https://datasheet.ciiva.com/19462/883464-19462371.pdf?src-supplier=Jameco; ComponentLink4URL: https://datasheet.ciiva.com/30194/128550430450612-pcb-headers-30194512.pdf?src-supplier=Onlinecomponents.com; ComponentLink4Description: https://datasheet.ciiva.com/30194/128550430450612-pcb-headers-30194512.pdf?src-supplier=Onlinecomponents.com; ComponentLink5URL: https://datasheet.ciiva.com/9468/0430450612-pcb-headers-9468492.pdf?src-supplier=Avnet; ComponentLink5Description: https://datasheet.ciiva.com/9468/0430450612-pcb-headers-9468492.pdf?src-supplier=Avnet; Supplier Part Number 1: 2332898
footprint J_MicroFit_2x3_V
pins: 1, 2, 3, 4, 5, 6

## J_MicroFit_2x4
designator J*, comment 0430450800  (value not drawn)
Connector Wire to Board Header 8 Position 3mm Solder Right Angle Thru-Hole Tray; Manufacturer 1: Molex; .Creator: GP; Supplier 1: Arrow Electronics; Manufacturer Part Number 1: 0430450800; RoHS: Yes; Category: Headers and Wire Housings; Stock 1: 47494; Pricing 1: 1=2,57150, 10=2,34190, 25=2,14460, 50=2,00330, 100=1,89490, 500=1,75400 (USD); Supplier Part Number 1: 43045-0800
footprint J_MicroFit_2x4
pins: 1, 2, 3, 4, 5, 6, 7, 8

## J_MiniFit_1x2
designator J*, comment 428202214  (value not drawn)
Conn; Rect; Header; 10.00mm Pitch; 2 Pos; Rt Ang; 1-Row; Mini-Fit Sr; 1.57mm Thick; Silvr; Manufacturer: Molex; Manufacturer Part Number: 42820-2214; .Creator: GP; Supplier 1: RSComponents; RoHS: Yes; Category: Headers and Wire Housings; Stock 1: 7; Pricing 1: 460=2,84300, 2300=2,46500 (GBP); ComponentLink1URL: https://www.molex.com/pdm_docs/sd/428202214_sd.pdf; ComponentLink1Description: Datasheet; ComponentLink2URL: http://www.alliedelec.com/images/products/datasheets/bm/MOLEX/70671078.pdf?src-supplier=Allied+Electronics; ComponentLink2Description: http://www.alliedelec.com/images/products/datasheets/bm/MOLEX/70671078.pdf?src-supplier=Allied+Electronics; ComponentLink3URL: http://www.farnell.com/datasheets/2220571.pdf?src-supplier=Newark; ComponentLink3Description: http://www.farnell.com/datasheets/2220571.pdf?src-supplier=Newark; ComponentLink4URL: http://www.farnell.com/datasheets/1958086.pdf?src-supplier=Element14; ComponentLink4Description: http://www.farnell.com/datasheets/1958086.pdf?src-supplier=Element14; Supplier Part Number 1: 2076803
footprint J_SupplyDeriv_In
pins: 1 VBat, 5 GND

## J_NanoFit_1x4
designator J*, comment 1053131204  (value not drawn)
Nano-Fit Right Angle Header; Through Hole; 2.50mm; Single Row; 4 Circuit; Gold Plated; Manufacturer: Molex; Manufacturer Part Number: 105313-1204; Gender: Male; .Creator: DO; Supplier 1: RSComponents; RoHS: Yes; Category: Headers and Wire Housings; Stock 1: 286; Pricing 1: 10=1,14100, 50=0,65100, 100=0,63400, 250=0,61700, 500=0,60100 (GBP); Mount: Through Hole; Contact Plating: Gold; Contact Material: Brass; Color: Black; Termination: Through Hole; Number of Rows: 1; REACH SVHC: Unknown; RoHS Compliant: Yes; ComponentLink1URL: http://www.farnell.com/datasheets/2216599.pdf?src-supplier=Farnell; ComponentLink1Description: http://www.farnell.com/datasheets/2216599.pdf?src-supplier=Farnell; ComponentLink2URL: http://www.farnell.com/datasheets/2216599.pdf?src-supplier=Element14; ComponentLink2Description: http://www.farnell.com/datasheets/2216599.pdf?src-supplier=Element14; ComponentLink3URL: http://www.farnell.com/datasheets/2216599.pdf?src-supplier=Newark; ComponentLink3Description: http://www.farnell.com/datasheets/2216599.pdf?src-supplier=Newark; ComponentLink4URL: https://www.molex.com/pdm_docs/sd/1053131102_sd.pdf?src-supplier=Digi-Key; ComponentLink4Description: https://www.molex.com/pdm_docs/sd/1053131102_sd.pdf?src-supplier=Digi-Key; Supplier Part Number 1: 1225085
footprint J-N1x4
pins: 1, 2, 3, 4

## J_NanoFit_1x4_V
designator J*, comment 1053091204  (value not drawn)
Nano-Fit Vertical Header Through Hole 2.50mm Pitch Single Row 4 Circuits with Kinked Pins 0.38; Manufacturer 1: Molex; Manufacturer Part Number 1: 105309-1204; .Creator: DO; Supplier 1: Arrow Electronics; RoHS: No; Category: Headers and Wire Housings; Stock 1: 709; Pricing 1: 1=1,37050, 10=1,11700, 100=0,95270, 500=0,86980, 1000=0,74060, 2500=0,71930, 5000=0,68450, 10000=0,66860 (USD); ComponentLink1URL: http://farnell.com//datasheets/2221349.pdf?src-supplier=Farnell; ComponentLink1Description: http://farnell.com//datasheets/2221349.pdf?src-supplier=Farnell; ComponentLink2URL: http://www.farnell.com/datasheets/2221349.pdf?src-supplier=Newark; ComponentLink2Description: http://www.farnell.com/datasheets/2221349.pdf?src-supplier=Newark; ComponentLink3URL: http://www.literature.molex.com/SQLImages/kelmscott/Molex/PDF_Images/987651-1223.PDF?src-supplier=Digi-Key; ComponentLink3Description: http://www.literature.molex.com/SQLImages/kelmscott/Molex/PDF_Images/987651-1223.PDF?src-supplier=Digi-Key; ComponentLink4URL: http://www.farnell.com/datasheets/2059602.pdf?src-supplier=Element14; ComponentLink4Description: http://www.farnell.com/datasheets/2059602.pdf?src-supplier=Element14; Supplier Part Number 1: 105309-1204
footprint J_NanoFit_1x4_V
pins: 1, 2, 3, 4

## J_NanoFit_1x4_V_W
designator J*, comment 1053092104  (value not drawn)
Conn HDR 4 POS 2.5mm Solder ST Thru-Hole 4 Terminal 1 Port Nano-Fit Tray; Manufacturer 1: Molex; Manufacturer Part Number 1: 105309-2104; .Creator: DR; Supplier 1: Newark; RoHS: No; Category: Headers and Wire Housings; Stock 1: 1183; Pricing 1: 1=1,30000, 10=1,15000, 25=1,11000, 50=1,07000, 100=1,02000, 250=0,94400 (USD); Supplier Part Number 1: 44AJ4572
footprint J_NanoFit_1x4_V
pins: 1, 2, 3, 4

## J_NanoFit_2x2
designator J*
Conn Nano-Fit Power HDR 4 POS 2.5mm Solder ST Through Hole 4 Terminal Single Port Tray; Manufacturer 1: Molex; Manufacturer Part Number 1: 1053101104; Supplier 1: Farnell; RoHS: Yes; Category: Uncategorized; Stock 1: 255; Pricing 1: 1=1,43000, 10=1,18000, 50=0,74900, 100=0,72900, 500=0,71400, 1000=0,70700 (EUR); ComponentLink1URL: https://www.molex.com/pdm_docs/ps/PS-105300-100-001.pdf?src-supplier=Digi-Key; ComponentLink1Description: https://www.molex.com/pdm_docs/ps/PS-105300-100-001.pdf?src-supplier=Digi-Key; Supplier Part Number 1: 2820681
footprint J_NanoFit_2x2_v
pins: 1, 2, 3, 4

## J_NanoFit_2x3
designator J*
footprint J_NanoFit_2x3
pins: 1, 2, 3, 4, 5, 6

## J_NanoFit_2x4
designator J*, comment 105314-1108  (value not drawn)
Nano-Fit Right Angle Header Through Hole 2.50mm Pitch Dual Row 8 Circuits Tin (Sn) Plating Black; Manufacturer: Molex; Temperature rating: -40° to +105°C; Category type: PCB header; Maximum current: 7.5 A; Maximum voltage: 750 V AC; Connections: 2x4; Connector Type: Header,Male Pin; Number of Positions: 8; .Creator: DO; Category: Connector; ComponentLink1Description: Datasheet; ComponentLink1URL: https://www.molex.com/molex/products/part-detail/pcb_headers/1053141104; ComponentLink2Description: Where buy it; ComponentLink2URL: *; Manufacturer part number: 105314-1108; Supplier: *; RoHS: *; Application: Wire to board; Product name: Nano-Fit; Flammability: 94V-0; Orientation: Right Angle; Mount: Through hole; Supplier 1: Digi-Key; Stock 1: 11021; Pricing 1: 1=1,98000, 10=1,68600, 156=1,39308, 1092=1,09983, 4992=0,97518, 10140=0,95318 (USD); Contact Plating: Tin; Contact Material: Brass; Contact Shape: Square; Insulation Material: Polymer; Insulation Color: Black; Min Operating Temperature: -40°C; Max Operating Temperature: 105°C; Fastening Type: Latch; Packaging: Tray; Number of Rows: 2; Termination: Solder; RoHS Compliant: Yes; ComponentLink3URL: http://www.farnell.com/datasheets/2551096.pdf?src-supplier=Newark; ComponentLink3Description: http://www.farnell.com/datasheets/2551096.pdf?src-supplier=Newark; ComponentLink4URL: https://www.molex.com/pdm_docs/sd/1053141104_sd.pdf?src-supplier=Digi-Key; ComponentLink4Description: https://www.molex.com/pdm_docs/sd/1053141104_sd.pdf?src-supplier=Digi-Key; Supplier Part Number 1: WM16909-ND
footprint J_NanoFit_2X4
pins: 1, 2, 3, 4, 5, 6, 7, 8

## J_NanoFit_2x4_V
designator J*, comment 105310-1108  (value not drawn)
Nano-Fit Conn Power HDR 8 POS 2.5mm Solder ST Thru-Hole 8 Terminal 1 Port Nano-Fit™ Frame; Manufacturer: Molex; Supplier 1: RSComponents; Manufacturer Part Number: 105310-1108; RoHS: No; Category: Headers and Wire Housings; Stock 1: 1512; Pricing 1: 8=1,52500, 40=0,87900, 80=0,83600 (GBP); ComponentLink1URL: https://www.molex.com/pdm_docs/sd/1053101108_sd.pdf; ComponentLink1Description: Datasheet; ComponentLink2URL: https://www.molex.com/pdm_docs/ps/PS-105300-100-001.pdf?src-supplier=Digi-Key; ComponentLink2Description: https://www.molex.com/pdm_docs/ps/PS-105300-100-001.pdf?src-supplier=Digi-Key; ComponentLink3URL: http://www.farnell.com/datasheets/2551089.pdf?src-supplier=Newark; ComponentLink3Description: http://www.farnell.com/datasheets/2551089.pdf?src-supplier=Newark; Supplier Part Number 1: 1623685; ComponentLink4Description: Where buy it; ComponentLink4URL: https://www.molex.com/molex/products/part-detail/pcb_headers/1053101108
footprint J_NanoFit_2X4_V
pins: 1, 2, 3, 4, 5, 6, 7, 8

## J_NanoFit_2x8
designator J*, comment 1053141116  (value not drawn)
Nano-Fit Right Angle Header Through Hole 2.50mm Pitch Dual Row 16 Circuits Tin (Sn) Plating Black; Manufacturer: Molex; Manufacturer Part Number: 105314-1116; .Creator: DO; ComponentLink1URL: https://www.molex.com/pdm_docs/ps/PS-105300-100-001.pdf?src-supplier=Digi-Key; ComponentLink1Description: https://www.molex.com/pdm_docs/ps/PS-105300-100-001.pdf?src-supplier=Digi-Key; ComponentLink2Description: Where buy it; ComponentLink2URL: https://www.molex.com/molex/products/part-detail/pcb_headers/1053141116; Supplier 1: Newark; RoHS: Yes; Category: Headers and Wire Housings; Stock 1: 366; Pricing 1: 1=3,37000, 10=3,24000, 25=2,88000, 50=2,81000, 100=2,73000, 250=2,44000 (USD); Supplier Part Number 1: 33AC7692
footprint J_NanoFit_2x8
pins: 1, 2, 3, 4, 5, 6, 7, 8, 9, 10, 11, 12, 13, 14, 15, 16